# Altium schematic symbol library MAX4172.SchLib: 1 symbol
Pins are listed as number, name and electrical type; pins without a type are passive.

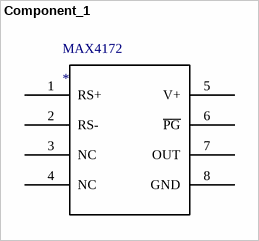
[diagram p0: symbol Component_1]

## Component_1
designator MAX4172
pins: 1 RS+, 2 RS-, 3 NC, 4 NC, 5 V+, 6 ~{PG}, 7 OUT, 8 GND